# Altium footprint library XT30U-F.PcbLib: 1 footprints
Each footprint in its own frame and in the unit in brackets; x right, y up, seen from the top. Pads: shape width x height; smd on the part's side, far side on the other; paste and mask are expansions set on the pad; w line width, h text height; cw(c..) or ccw(c..) is an arc to the next point about the centre after c.
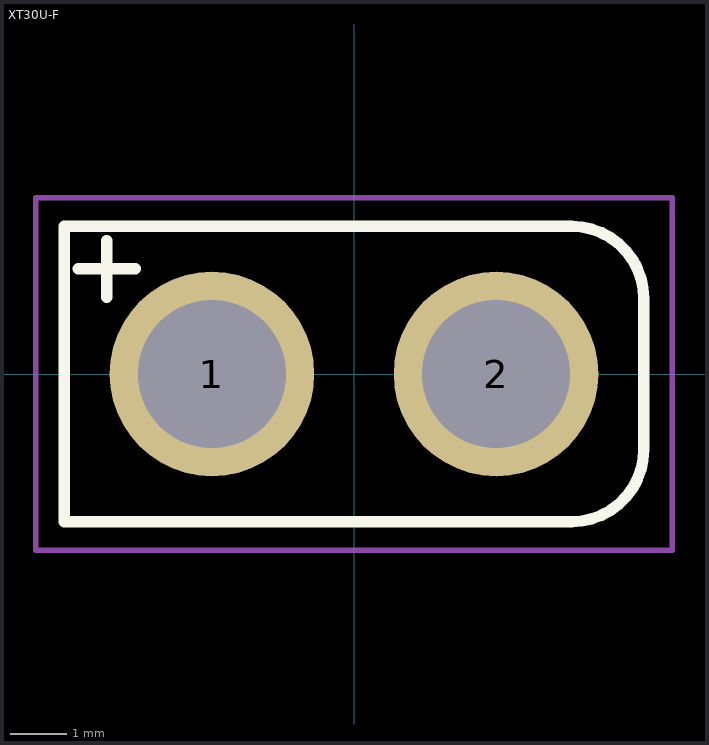
[diagram p0: the footprint, top view; thin cyan lines are the x and y axes]

## XT30U-F [mm]
pads (2):
  round 3.6 hole 2.6: 1(-2.5,0) 2(2.5,0)
Top Overlay:
  lines w0.2: -4.85,1.85 -3.85,1.85 ; -4.35,1.35 -4.35,2.35 ; 5.1,-1.33 cw(c3.83,-1.33) 3.83,-2.6 -5.1,-2.6 -5.1,2.6 3.83,2.6 cw(c3.83,1.33) 5.1,1.33 ; 5.1,-1.33 5.1,1.33 ; 5.1,-1.33 5.1,1.33
Top Courtyard:
  lines w0.1: -5.6,-3.1 -5.6,3.1 5.6,3.1 5.6,-3.1 -5.1,-3.1 -5.6,-3.1
3D body "User Library-xt30-f.step": height 9.4, standoff -3, extent -5.1,-2.6 5.1,2.6